# EAGLE library part RELAY-SINGLE_LATCH (library SmartTreeCan)
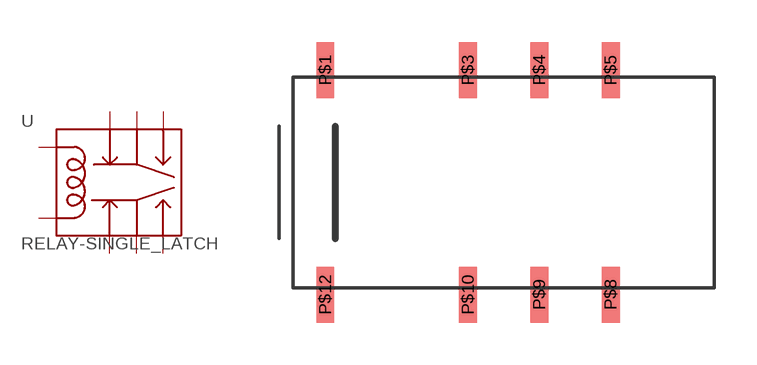
[diagram p0: symbol with the pads of RELAY-EE2; footprint RELAY-EE2]

Designator prefix -

## RELAY-SINGLE_LATCH  [RELAY-EE2]
P$1  COIL1
P$3  P$3
P$4  P$4
P$5  P$5
P$8  P$8
P$9  P$9
P$10  P$10
P$12  COIL12

## Footprint RELAY-EE2 (pad centres in mm)
smd 0.635 x 2: P$1 -6.35,4; P$3 -1.27,4; P$4 1.27,4; P$5 3.81,4; P$8 3.81,-4; P$9 1.27,-4; P$10 -1.27,-4; P$12 -6.35,-4